# Altium schematic symbol library PH2.54.SchLib: 14 symbols
Pins are listed as number, name and electrical type; pins without a type are passive.

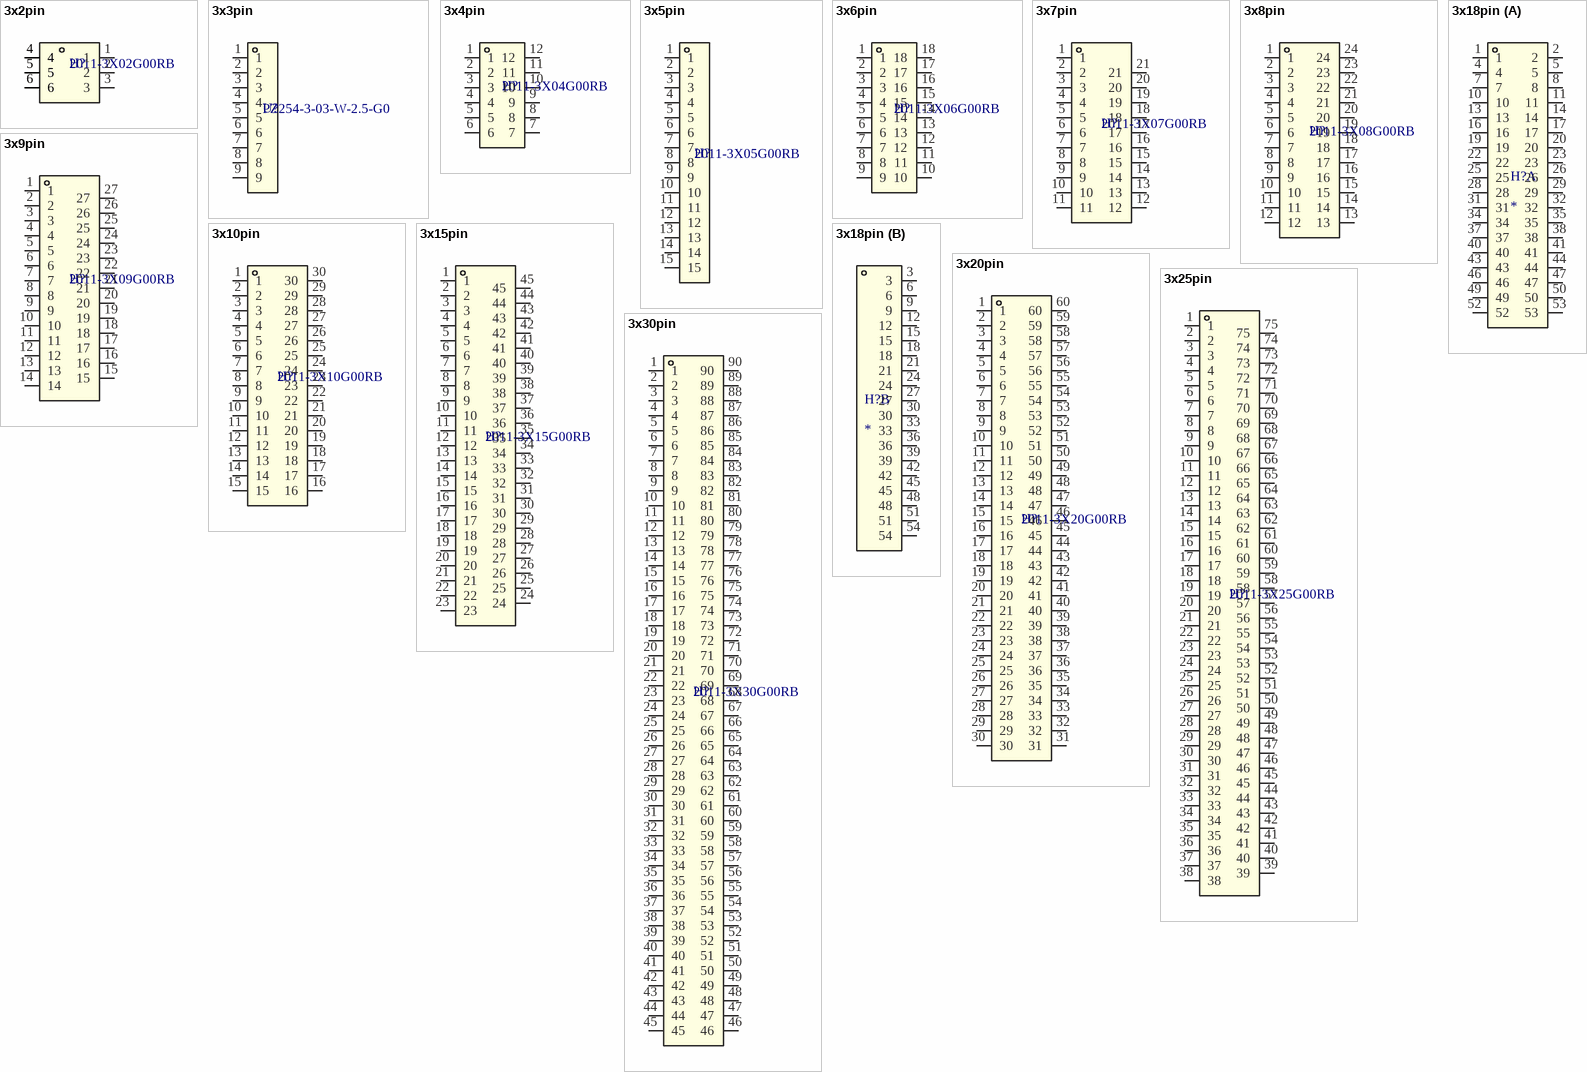
[diagram p0: symbols 3x2pin to 3x30pin]

## 3x2pin
designator H?, comment 2011-3X02G00RB
插针结构:3x2P;间距:2.54mm;行距:2.54mm;圆针/方针:方针;安装方式:弯插;排数:三排;总PIN位数:6P;额定电流:3A;塑高:7.5mm;触头材质:黄铜;触头镀层:金;工作温度:-40℃~+105℃;颜色:黑色;; Manufacturer: WingTAT(格林柏); SEEX_AUTHOR: ref42; SEEX_COMPONENT_ID: C51953242; Circluar Pins/Square Pins: 方针; Current Rating: 3A; Pin Structure: 3x2P; Pitch: 2.54mm; SEEX_PROJECT_URL: https://github.com/ref42/seex; Footprint: HDR-TH_6P-P2.54-H-M-R3-C2-S2.54-N; Color: 黑色; Contact Material: 黄铜; Contact Plating: 金; Datasheet: https://item.szlcsc.com/datasheet/2011-3X02G00RB/54680399.html; Insulation Height: 7.5mm; JLCPCB Part Class: Extended Part; LCSC Part Name: 3x2P 间距:2.54mm 方针 弯插; Manufacturer Part: 2011-3X02G00RB; Mounting Type: 弯插; Number of Pins: 6P; Number of Rows: 三排; Operating Temperature: -40℃~+105℃; Row Spacing: 2.54mm; Supplier: LCSC; Supplier Footprint: 弯插,P=2.54mm; Supplier Part: C51953242
footprint HDR-TH_6P-P2.54-H-M-R3-C2-S2.54-N (PCB footprint)
pins: 1, 2, 3, 4, 5, 6

## 3x3pin
designator U?, comment PZ254-3-03-W-2.5-G0
插针结构:3x3P;间距:2.54mm;行距:2.54mm;圆针/方针:方针;安装方式:弯插;排数:三排;总PIN位数:9P;额定电流:3A;配合针长度:6mm;塑高:2.5mm;端接针长度:-;工作温度:-40℃~+105℃;颜色:黑色;; Manufacturer: HCTL(华灿天禄); SEEX_AUTHOR: ref42; SEEX_COMPONENT_ID: C7429379; Circluar Pins/Square Pins: 方针; Current Rating: 3A; Pin Structure: 3x3P; Pitch: 2.54mm; SEEX_PROJECT_URL: https://github.com/ref42/seex; Footprint: HDR-TH_9P-P2.54_C9900044301; Color: 黑色; Datasheet: https://item.szlcsc.com/datasheet/PZ254-3-03-W-2.5-G0/8426831.html; Insulation Height: 2.5mm; JLCPCB Part Class: Extended Part; LCSC Part Name: 黑色 3x3P 间距:2.54mm 方针 弯插; Length of Mating Pin: 6mm; Manufacturer Part: PZ254-3-03-W-2.5-G0; Mounting Type: 弯插; Number of Pins: 9P; Number of Rows: 三排; Operating Temperature: -40℃~+105℃; Row Spacing: 2.54mm; Supplier: LCSC; Supplier Footprint: 弯插,P=2.54mm; Supplier Part: C7429379
footprint HDR-TH_9P-P2.54_C9900044301 (PCB footprint)
pins: 1, 2, 3, 4, 5, 6, 7, 8, 9

## 3x4pin
designator H?, comment 2011-3X04G00RB
插针结构:3x4P;间距:2.54mm;行距:2.54mm;圆针/方针:方针;安装方式:弯插;排数:三排;总PIN位数:12P;额定电流:3A;塑高:7.5mm;触头材质:黄铜;触头镀层:金;工作温度:-40℃~+105℃;颜色:黑色;; Manufacturer: WingTAT(格林柏); SEEX_AUTHOR: ref42; SEEX_COMPONENT_ID: C51953244; Circluar Pins/Square Pins: 方针; Current Rating: 3A; Pin Structure: 3x4P; Pitch: 2.54mm; SEEX_PROJECT_URL: https://github.com/ref42/seex; Footprint: HDR-TH_2011-3X04G00RB; Color: 黑色; Contact Material: 黄铜; Contact Plating: 金; Datasheet: https://item.szlcsc.com/datasheet/2011-3X04G00RB/54680401.html; Insulation Height: 7.5mm; JLCPCB Part Class: Extended Part; LCSC Part Name: 3x4P 间距:2.54mm 方针 弯插; Manufacturer Part: 2011-3X04G00RB; Mounting Type: 弯插; Number of Pins: 12P; Number of Rows: 三排; Operating Temperature: -40℃~+105℃; Row Spacing: 2.54mm; Supplier: LCSC; Supplier Footprint: 弯插,P=2.54mm; Supplier Part: C51953244
footprint HDR-TH_2011-3X04G00RB (PCB footprint)
pins: 1, 2, 3, 4, 5, 6, 7, 8, 9, 10, 11, 12

## 3x5pin
designator H?, comment 2011-3X05G00RB
插针结构:3x5P;间距:2.54mm;行距:2.54mm;圆针/方针:方针;安装方式:弯插;排数:三排;总PIN位数:15P;额定电流:3A;塑高:7.5mm;触头材质:黄铜;触头镀层:金;工作温度:-40℃~+105℃;颜色:黑色;; Manufacturer: WingTAT(格林柏); SEEX_AUTHOR: ref42; SEEX_COMPONENT_ID: C51953245; Circluar Pins/Square Pins: 方针; Current Rating: 3A; Pin Structure: 3x5P; Pitch: 2.54mm; SEEX_PROJECT_URL: https://github.com/ref42/seex; Footprint: HDR-TH_15P-P2.54-H-M-R3-C5_C9900111934; Color: 黑色; Contact Material: 黄铜; Contact Plating: 金; Datasheet: https://item.szlcsc.com/datasheet/2011-3X05G00RB/54680402.html; Insulation Height: 7.5mm; JLCPCB Part Class: Extended Part; LCSC Part Name: 3x5P 间距:2.54mm 方针 弯插; Manufacturer Part: 2011-3X05G00RB; Mounting Type: 弯插; Number of Pins: 15P; Number of Rows: 三排; Operating Temperature: -40℃~+105℃; Row Spacing: 2.54mm; Supplier: LCSC; Supplier Footprint: 弯插,P=2.54mm; Supplier Part: C51953245
footprint HDR-TH_15P-P2.54-H-M-R3-C5_C9900111934 (PCB footprint)
pins: 1, 2, 3, 4, 5, 6, 7, 8, 9, 10, 11, 12, 13, 14, 15

## 3x6pin
designator H?, comment 2011-3X06G00RB
插针结构:3x6P;间距:2.54mm;行距:2.54mm;圆针/方针:方针;安装方式:弯插;排数:三排;总PIN位数:18P;额定电流:3A;塑高:7.5mm;触头材质:黄铜;触头镀层:金;工作温度:-40℃~+105℃;颜色:黑色;; Manufacturer: WingTAT(格林柏); SEEX_AUTHOR: ref42; SEEX_COMPONENT_ID: C51953246; Circluar Pins/Square Pins: 方针; Current Rating: 3A; Pin Structure: 3x6P; Pitch: 2.54mm; SEEX_PROJECT_URL: https://github.com/ref42/seex; Footprint: HDR-TH_18P-P2.54-H-M-R3-C6-S2.54-W15.5; Color: 黑色; Contact Material: 黄铜; Contact Plating: 金; Datasheet: https://item.szlcsc.com/datasheet/2011-3X06G00RB/54680403.html; Insulation Height: 7.5mm; JLCPCB Part Class: Extended Part; LCSC Part Name: 3x6P 间距:2.54mm 方针 弯插; Manufacturer Part: 2011-3X06G00RB; Mounting Type: 弯插; Number of Pins: 18P; Number of Rows: 三排; Operating Temperature: -40℃~+105℃; Row Spacing: 2.54mm; Supplier: LCSC; Supplier Footprint: 弯插,P=2.54mm; Supplier Part: C51953246
footprint HDR-TH_18P-P2.54-H-M-R3-C6-S2.54-W15.5 (PCB footprint)
pins: 1, 2, 3, 4, 5, 6, 7, 8, 9, 10, 11, 12, 13, 14, 15, 16, 17, 18

## 3x7pin
designator H?, comment 2011-3X07G00RB
插针结构:3x7P;间距:2.54mm;行距:2.54mm;圆针/方针:方针;安装方式:弯插;排数:三排;总PIN位数:21P;额定电流:3A;塑高:7.5mm;触头材质:黄铜;触头镀层:金;工作温度:-40℃~+105℃;颜色:黑色;; Manufacturer: WingTAT(格林柏); SEEX_AUTHOR: ref42; SEEX_COMPONENT_ID: C51953247; Circluar Pins/Square Pins: 方针; Current Rating: 3A; Pin Structure: 3x7P; Pitch: 2.54mm; SEEX_PROJECT_URL: https://github.com/ref42/seex; Footprint: HDR-TH_21P-P2.54_2011-3X07G00RB; Color: 黑色; Contact Material: 黄铜; Contact Plating: 金; Datasheet: https://item.szlcsc.com/datasheet/2011-3X07G00RB/54680404.html; Insulation Height: 7.5mm; JLCPCB Part Class: Extended Part; LCSC Part Name: 3x7P 间距:2.54mm 方针 弯插; Manufacturer Part: 2011-3X07G00RB; Mounting Type: 弯插; Number of Pins: 21P; Number of Rows: 三排; Operating Temperature: -40℃~+105℃; Row Spacing: 2.54mm; Supplier: LCSC; Supplier Footprint: 弯插,P=2.54mm; Supplier Part: C51953247
footprint HDR-TH_21P-P2.54_2011-3X07G00RB (PCB footprint)
pins: 1, 2, 3, 4, 5, 6, 7, 8, 9, 10, 11, 12, 13, 14, 15, 16, 17, 18, 19, 20, 21

## 3x8pin
designator H?, comment 2011-3X08G00RB
插针结构:3x8P;间距:2.54mm;行距:2.54mm;圆针/方针:方针;安装方式:弯插;排数:三排;总PIN位数:24P;额定电流:3A;塑高:7.5mm;触头材质:黄铜;触头镀层:金;工作温度:-40℃~+105℃;颜色:黑色;; Manufacturer: WingTAT(格林柏); SEEX_AUTHOR: ref42; SEEX_COMPONENT_ID: C51953248; Circluar Pins/Square Pins: 方针; Current Rating: 3A; Pin Structure: 3x8P; Pitch: 2.54mm; SEEX_PROJECT_URL: https://github.com/ref42/seex; Footprint: HDR-TH_24P-P2.54-H-M-R3-C8-S2.54; Color: 黑色; Contact Material: 黄铜; Contact Plating: 金; Datasheet: https://item.szlcsc.com/datasheet/2011-3X08G00RB/54680405.html; Insulation Height: 7.5mm; JLCPCB Part Class: Extended Part; LCSC Part Name: 3x8P 间距:2.54mm 方针 弯插; Manufacturer Part: 2011-3X08G00RB; Mounting Type: 弯插; Number of Pins: 24P; Number of Rows: 三排; Operating Temperature: -40℃~+105℃; Row Spacing: 2.54mm; Supplier: LCSC; Supplier Footprint: 弯插,P=2.54mm; Supplier Part: C51953248
footprint HDR-TH_24P-P2.54-H-M-R3-C8-S2.54 (PCB footprint)
pins: 1, 2, 3, 4, 5, 6, 7, 8, 9, 10, 11, 12, 13, 14, 15, 16, 17, 18, 19, 20, 21, 22, 23, 24

## 3x9pin
designator H?, comment 2011-3X09G00RB
插针结构:3x9P;间距:2.54mm;行距:2.54mm;圆针/方针:方针;安装方式:弯插;排数:三排;总PIN位数:27P;额定电流:3A;塑高:7.5mm;触头材质:黄铜;触头镀层:金;工作温度:-40℃~+105℃;颜色:黑色;; Manufacturer: WingTAT(格林柏); SEEX_AUTHOR: ref42; SEEX_COMPONENT_ID: C51953249; Circluar Pins/Square Pins: 方针; Current Rating: 3A; Pin Structure: 3x9P; Pitch: 2.54mm; SEEX_PROJECT_URL: https://github.com/ref42/seex; Footprint: HDR-TH_27P-P2.54_2011-3X09G00RB; Color: 黑色; Contact Material: 黄铜; Contact Plating: 金; Datasheet: https://item.szlcsc.com/datasheet/2011-3X09G00RB/54680406.html; Insulation Height: 7.5mm; JLCPCB Part Class: Extended Part; LCSC Part Name: 3x9P 间距:2.54mm 方针 弯插; Manufacturer Part: 2011-3X09G00RB; Mounting Type: 弯插; Number of Pins: 27P; Number of Rows: 三排; Operating Temperature: -40℃~+105℃; Row Spacing: 2.54mm; Supplier: LCSC; Supplier Footprint: 弯插,P=2.54mm; Supplier Part: C51953249
footprint HDR-TH_27P-P2.54_2011-3X09G00RB (PCB footprint)
pins: 1, 2, 3, 4, 5, 6, 7, 8, 9, 10, 11, 12, 13, 14, 15, 16, 17, 18, 19, 20, 21, 22, 23, 24, 25, 26, 27

## 3x10pin
designator H?, comment 2011-3X10G00RB
插针结构:3x10P;间距:2.54mm;行距:2.54mm;圆针/方针:方针;安装方式:弯插;排数:三排;总PIN位数:30P;额定电流:3A;塑高:7.5mm;触头材质:黄铜;触头镀层:金;工作温度:-40℃~+105℃;颜色:黑色;; Manufacturer: WingTAT(格林柏); SEEX_AUTHOR: ref42; SEEX_COMPONENT_ID: C51953250; Circluar Pins/Square Pins: 方针; Current Rating: 3A; Pin Structure: 3x10P; Pitch: 2.54mm; SEEX_PROJECT_URL: https://github.com/ref42/seex; Footprint: HDR-TH_2011-3X10G00RB; Color: 黑色; Contact Material: 黄铜; Contact Plating: 金; Datasheet: https://item.szlcsc.com/datasheet/2011-3X10G00RB/54680407.html; Insulation Height: 7.5mm; JLCPCB Part Class: Extended Part; LCSC Part Name: 3x10P 间距:2.54mm 方针 弯插; Manufacturer Part: 2011-3X10G00RB; Mounting Type: 弯插; Number of Pins: 30P; Number of Rows: 三排; Operating Temperature: -40℃~+105℃; Row Spacing: 2.54mm; Supplier: LCSC; Supplier Footprint: 弯插,P=2.54mm; Supplier Part: C51953250
footprint HDR-TH_2011-3X10G00RB (PCB footprint)
pins: 1, 2, 3, 4, 5, 6, 7, 8, 9, 10, 11, 12, 13, 14, 15, 16, 17, 18, 19, 20, 21, 22, 23, 24, 25, 26, 27, 28, 29, 30

## 3x15pin
designator H?, comment 2011-3X15G00RB
插针结构:3x15P;间距:2.54mm;行距:2.54mm;圆针/方针:方针;安装方式:弯插;排数:三排;总PIN位数:45P;额定电流:3A;塑高:7.5mm;触头材质:黄铜;触头镀层:金;工作温度:-40℃~+105℃;颜色:黑色;; Manufacturer: WingTAT(格林柏); SEEX_AUTHOR: ref42; SEEX_COMPONENT_ID: C51953251; Circluar Pins/Square Pins: 方针; Current Rating: 3A; Pin Structure: 3x15P; Pitch: 2.54mm; SEEX_PROJECT_URL: https://github.com/ref42/seex; Footprint: HDR-TH_45P-P2.54-H-M-R3-C15-S2.54; Color: 黑色; Contact Material: 黄铜; Contact Plating: 金; Datasheet: https://item.szlcsc.com/datasheet/2011-3X15G00RB/54680408.html; Insulation Height: 7.5mm; JLCPCB Part Class: Extended Part; LCSC Part Name: 3x15P 间距:2.54mm 方针 弯插; Manufacturer Part: 2011-3X15G00RB; Mounting Type: 弯插; Number of Pins: 45P; Number of Rows: 三排; Operating Temperature: -40℃~+105℃; Row Spacing: 2.54mm; Supplier: LCSC; Supplier Footprint: 弯插,P=2.54mm; Supplier Part: C51953251
footprint HDR-TH_45P-P2.54-H-M-R3-C15-S2.54 (PCB footprint)
pins: 1, 2, 3, 4, 5, 6, 7, 8, 9, 10, 11, 12, 13, 14, 15, 16, 17, 18, 19, 20, 21, 22, 23, 24, 25, 26, 27, 28, 29, 30, 31, 32, 33, 34, 35, 36, 37, 38, 39, 40, 41, 42, 43, 44, 45

## 3x18pin
designator H?
3x20pin
footprint HDR-TH_2011-3X18G00RB
part A pins: 1, 2, 4, 5, 7, 8, 10, 11, 13, 14, 16, 17, 19, 20, 22, 23, 25, 26, 28, 29, 31, 32, 34, 35, 37, 38, 40, 41, 43, 44, 46, 47, 49, 50, 52, 53
part B pins: 3, 6, 9, 12, 15, 18, 21, 24, 27, 30, 33, 36, 39, 42, 45, 48, 51, 54

## 3x20pin
designator H?, comment 2011-3X20G00RB
插针结构:3x20P;间距:2.54mm;行距:2.54mm;圆针/方针:方针;安装方式:弯插;排数:三排;总PIN位数:60P;额定电流:3A;塑高:7.5mm;触头材质:黄铜;触头镀层:金;工作温度:-40℃~+105℃;颜色:黑色;; Manufacturer: WingTAT(格林柏); SEEX_AUTHOR: ref42; SEEX_COMPONENT_ID: C51953252; Circluar Pins/Square Pins: 方针; Current Rating: 3A; Pin Structure: 3x20P; Pitch: 2.54mm; SEEX_PROJECT_URL: https://github.com/ref42/seex; Footprint: HDR-TH_2011-3X20G00RB; Color: 黑色; Contact Material: 黄铜; Contact Plating: 金; Datasheet: https://item.szlcsc.com/datasheet/2011-3X20G00RB/54680409.html; Insulation Height: 7.5mm; JLCPCB Part Class: Extended Part; LCSC Part Name: 3x20P 间距:2.54mm 方针 弯插; Manufacturer Part: 2011-3X20G00RB; Mounting Type: 弯插; Number of Pins: 60P; Number of Rows: 三排; Operating Temperature: -40℃~+105℃; Row Spacing: 2.54mm; Supplier: LCSC; Supplier Footprint: 弯插,P=2.54mm; Supplier Part: C51953252
footprint HDR-TH_2011-3X20G00RB (PCB footprint)
pins: 1, 2, 3, 4, 5, 6, 7, 8, 9, 10, 11, 12, 13, 14, 15, 16, 17, 18, 19, 20, 21, 22, 23, 24, 25, 26, 27, 28, 29, 30, 31, 32, 33, 34, 35, 36, 37, 38, 39, 40, 41, 42, 43, 44, 45, 46, 47, 48, 49, 50, 51, 52, 53, 54, 55, 56, 57, 58, 59, 60

## 3x25pin
designator H?, comment 2011-3X25G00RB
插针结构:3x25P;间距:2.54mm;行距:2.54mm;圆针/方针:方针;安装方式:弯插;排数:三排;总PIN位数:75P;额定电流:3A;塑高:7.5mm;触头材质:黄铜;触头镀层:金;工作温度:-40℃~+105℃;颜色:黑色;; Manufacturer: WingTAT(格林柏); SEEX_AUTHOR: ref42; SEEX_COMPONENT_ID: C51953253; Circluar Pins/Square Pins: 方针; Current Rating: 3A; Pin Structure: 3x25P; Pitch: 2.54mm; SEEX_PROJECT_URL: https://github.com/ref42/seex; Footprint: HDR-TH_2011-3X25G00RB; Color: 黑色; Contact Material: 黄铜; Contact Plating: 金; Datasheet: https://item.szlcsc.com/datasheet/2011-3X25G00RB/54680410.html; Insulation Height: 7.5mm; JLCPCB Part Class: Extended Part; LCSC Part Name: 3x25P 间距:2.54mm 方针 弯插; Manufacturer Part: 2011-3X25G00RB; Mounting Type: 弯插; Number of Pins: 75P; Number of Rows: 三排; Operating Temperature: -40℃~+105℃; Row Spacing: 2.54mm; Supplier: LCSC; Supplier Footprint: 弯插,P=2.54mm; Supplier Part: C51953253
footprint HDR-TH_2011-3X25G00RB (PCB footprint)
pins: 1, 2, 3, 4, 5, 6, 7, 8, 9, 10, 11, 12, 13, 14, 15, 16, 17, 18, 19, 20, 21, 22, 23, 24, 25, 26, 27, 28, 29, 30, 31, 32, 33, 34, 35, 36, 37, 38, 39, 40, 41, 42, 43, 44, 45, 46, 47, 48, 49, 50, 51, 52, 53, 54, 55, 56, 57, 58, 59, 60, 61, 62, 63, 64, 65, 66, 67, 68, 69, 70, 71, 72, 73, 74, 75

## 3x30pin
designator H?, comment 2011-3X30G00RB
插针结构:3x30P;间距:2.54mm;行距:2.54mm;圆针/方针:方针;安装方式:弯插;排数:三排;总PIN位数:90P;额定电流:3A;塑高:7.5mm;触头材质:黄铜;触头镀层:金;工作温度:-40℃~+105℃;颜色:黑色;; Manufacturer: WingTAT(格林柏); SEEX_AUTHOR: ref42; SEEX_COMPONENT_ID: C51953254; Circluar Pins/Square Pins: 方针; Current Rating: 3A; Pin Structure: 3x30P; Pitch: 2.54mm; SEEX_PROJECT_URL: https://github.com/ref42/seex; Footprint: HDR-TH_90P-P2.54-H-M-R3-C30_2011-3X30G00RB; Color: 黑色; Contact Material: 黄铜; Contact Plating: 金; Datasheet: https://item.szlcsc.com/datasheet/2011-3X30G00RB/54680411.html; Insulation Height: 7.5mm; JLCPCB Part Class: Extended Part; LCSC Part Name: 3x30P 间距:2.54mm 方针 弯插; Manufacturer Part: 2011-3X30G00RB; Mounting Type: 弯插; Number of Pins: 90P; Number of Rows: 三排; Operating Temperature: -40℃~+105℃; Row Spacing: 2.54mm; Supplier: LCSC; Supplier Footprint: 弯插,P=2.54mm; Supplier Part: C51953254
footprint HDR-TH_90P-P2.54-H-M-R3-C30_2011-3X30G00RB (PCB footprint)
pins: 1, 2, 3, 4, 5, 6, 7, 8, 9, 10, 11, 12, 13, 14, 15, 16, 17, 18, 19, 20, 21, 22, 23, 24, 25, 26, 27, 28, 29, 30, 31, 32, 33, 34, 35, 36, 37, 38, 39, 40, 41, 42, 43, 44, 45, 46, 47, 48, 49, 50, 51, 52, 53, 54, 55, 56, 57, 58, 59, 60, 61, 62, 63, 64, 65, 66, 67, 68, 69, 70, 71, 72, 73, 74, 75, 76, 77, 78, 79, 80, 81, 82, 83, 84, 85, 86, 87, 88, 89, 90